# Altium schematic symbol library FiveRelay.SchLib: 1 symbol
Pins are listed as number, name and electrical type; pins without a type are passive.

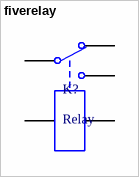
[diagram p0: symbol fiverelay]

## fiverelay
designator K?, comment Relay
常开常闭
footprint fiverelay
pins: 1 线圈1, 2 线圈2, 3 公共端, 4 常开, 5 常闭